# Altium integrated library Integrated_Library1.IntLib: 1 symbol
Pins are listed as number, name and electrical type; pins without a type are passive.

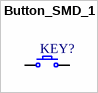
[diagram p0: symbol Button_SMD_1]

## Button_SMD_1
designator KEY?
footprint Button_SMD_1
pins: 1, 2